# Altium footprint library Crystals.PcbLib: 7 footprints
Each footprint in its own frame and in the unit in brackets; x right, y up, seen from the top. Pads: shape width x height; smd on the part's side, far side on the other; paste and mask are expansions set on the pad; w line width, h text height; cw(c..) or ccw(c..) is an arc to the next point about the centre after c.
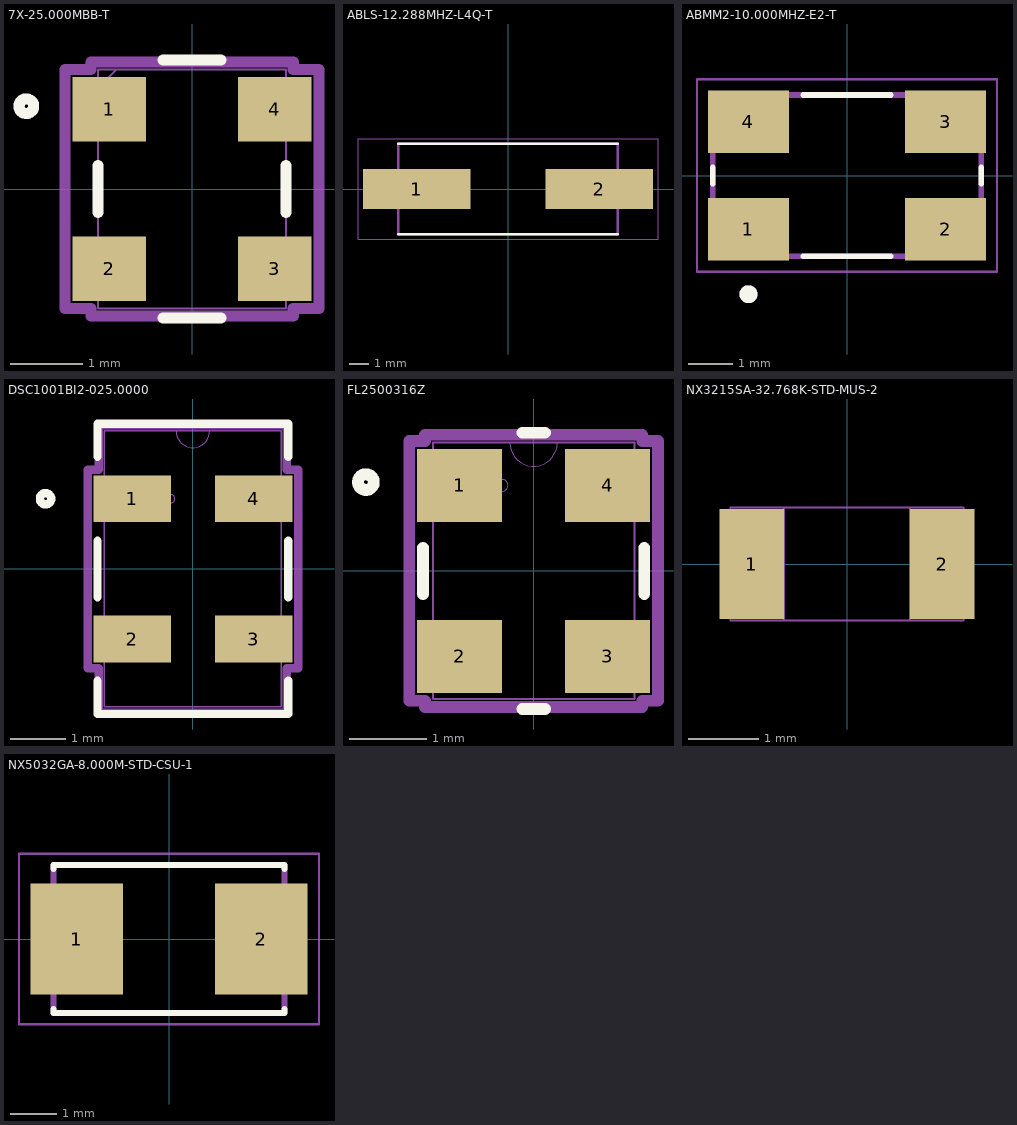
[diagram p0: the footprints below, top view; thin cyan lines are the x and y axes]

## 7X-25.000MBB-T [mil]
pads (4):
  rect 40x35 smd paste+0 mask+4: 1(-45,43.31) 2(-45,-43.31) 3(45,-43.31) 4(45,43.31)
Top Overlay:
  circle w6: c-90,45 r4
  lines w6: -51,-12.71 -51,12.71 ; -15.67,-70 15.67,-70 ; -15.67,70 15.67,70 ; 51,-12.71 51,12.71
Mechanical 13:
  lines w0: -51,-58.31 ccw(c-51,-43.31) -51,-28.31 ; -51,28.31 ccw(c-51,43.31) -51,58.31 ; 51,-58.31 cw(c51,-43.31) 51,-28.31 ; 51,28.31 cw(c51,43.31) 51,58.31
  lines w1: -51,-58.31 -51,-65 51,-65 51,-58.31 ; -51,-28.31 -51,28.31 ; -51,55 -41,65 ; -51,58.31 -51,65 51,65 51,58.31 ; 51,-28.31 51,28.31
Mechanical 15:
  lines w6: -69,-64.81 -55,-64.81 -55,-69 55,-69 55,-64.81 69,-64.81 69,64.81 55,64.81 55,69 -55,69 -55,64.81 -69,64.81 -69,-64.81

## ABLS-12.288MHZ-L4Q-T [mm]
pads (2):
  rect 5.6x2.1 smd: 1(-4.75,0) 2(4.75,0)
Top Overlay:
  lines w0.127: -5.7,-2.35 5.7,-2.35 ; -5.7,2.35 5.7,2.35
Mechanical 13:
  lines w0.127: -5.7,-2.35 -5.7,2.35 5.7,2.35 5.7,-2.35 -5.7,-2.35
Mechanical 15:
  lines w0.05: -7.8,-2.6 -7.8,2.6 7.8,2.6 7.8,-2.6 -7.8,-2.6
3D body "step_temp.STEP": height 4.06, standoff -0.1, extent -6.35,-2.349 6.35,2.349

## ABMM2-10.000MHZ-E2-T [mm]
pads (4):
  rect 1.8x1.4 smd: 1(-2.2,-1.2) 2(2.2,-1.2) 3(2.2,1.2) 4(-2.2,1.2)
Top Overlay:
  circle w0.2: c-2.2,-2.65 r0.1
  lines w0.127: -3,-0.18 -3,0.18 ; -0.98,-1.8 0.98,-1.8 ; -0.98,1.8 0.98,1.8 ; 3,-0.18 3,0.18
Mechanical 13:
  circle w0.2: c-2.2,-2.65 r0.1
  lines w0.127: -3,-1.8 3,-1.8 3,1.8 -3,1.8 -3,-1.8
Mechanical 15:
  lines w0.05: -3.35,-2.15 3.35,-2.15 3.35,2.15 -3.35,2.15 -3.35,-2.15
3D body "step_temp.STEP": height 1.2, standoff 0, extent -3,-1.8 3,1.8

## DSC1001BI2-025.0000 [mm]
pads (4):
  rect 1.403x0.849 smd paste+0 mask+0.102: 1(-1.102,1.27) 2(-1.102,-1.27) 3(1.102,-1.27) 4(1.102,1.27)
Top Overlay:
  circle w0.152: c-2.667,1.27 r0.102
  lines w0.152: -1.727,-2.027 -1.727,-2.627 1.727,-2.627 1.727,-2.027 ; -1.727,-0.513 -1.727,0.513 ; -1.727,2.027 -1.727,2.627 1.727,2.627 1.727,2.027 ; 1.727,-0.513 1.727,0.513
Mechanical 13:
  circle w0: c-0.4,1.27 r0.076
  lines w0: -0.305,2.5 ccw(c0,2.5) 0.305,2.5
  lines w0.025: -1.6,-2.5 1.6,-2.5 1.6,2.5 -1.6,2.5 -1.6,-2.5
Mechanical 15:
  lines w0.152: -1.905,-1.796 -1.905,1.796 -1.702,1.796 -1.702,2.602 1.702,2.602 1.702,1.796 1.905,1.796 1.905,-1.796 1.702,-1.796 1.702,-2.602 -1.702,-2.602 -1.702,-1.796 -1.905,-1.796
3D body "CDFN4_5X3P2_MCH.step": height 0.85, standoff 0, extent -1.6,-2.5 1.6,2.5

## FL2500316Z [mil]
pads (4):
  rect 43x37 smd paste+0 mask+4: 1(-37.5,43.31) 2(-37.5,-43.31) 3(37.5,-43.31) 4(37.5,43.31)
Top Overlay:
  circle w6: c-85,45 r4
  lines w6: -56,-11.71 -56,11.71 ; -5.78,-70 5.78,-70 ; -5.78,70 5.78,70 ; 56,-11.71 56,11.71
Mechanical 13:
  circle w0: c-16,43.31 r3
  lines w0: -12,65 ccw(c0,65) 12,65
  lines w1: -51,-65 -51,65 51,65 51,-65 -51,-65
Mechanical 15:
  lines w6: -63,-65.81 -55,-65.81 -55,-69 55,-69 55,-65.81 63,-65.81 63,65.81 55,65.81 55,69 -55,69 -55,65.81 -63,65.81 -63,-65.81
3D body "SON4_NKS3_3p2x2p5_CERAMICSMD_DIO.step": height 31.1, standoff 0, extent -50.98,-65 50.98,65

## NX3215SA-32.768K-STD-MUS-2 [mil]
pads (2):
  rect 36x61 smd paste+0 mask+4: 1(-53,0) 2(53,0)
Mechanical 13:
  circle w0: c-48,0 r3
  lines w1: -65,-31.5 -65,31.5 ; -65,-31.5 65,-31.5 ; -65,-31.5 -35,-31.5 -35,31.5 -65,31.5 ; -65,-31.5 -65,31.5 ; -65,31.5 65,31.5 ; 65,-31.5 65,31.5 ; 65,-31.5 65,31.5 ; 65,-31.5 35,-31.5 35,31.5 65,31.5
3D body "NX3215SA32.768KSTDMUS2.STEP": height 35.43, standoff 0, extent -62.99,-29.53 62.99,29.53

## NX5032GA-8.000M-STD-CSU-1 [mm]
pads (2):
  rect 2x2.4 smd: 1(-2,0) 2(2,0)
Top Overlay:
  lines w0.127: -2.5,-1.52 -2.5,-1.6 2.5,-1.6 2.5,-1.52 ; -2.5,1.52 -2.5,1.6 2.5,1.6 2.5,1.52
Mechanical 13:
  lines w0.127: -2.5,-1.6 -2.5,1.6 2.5,1.6 2.5,-1.6 -2.5,-1.6
Mechanical 15:
  lines w0.05: -3.25,-1.85 -3.25,1.85 3.25,1.85 3.25,-1.85 -3.25,-1.85
3D body "step_temp.STEP": height 1.5, standoff 0, extent -2.5,-1.6 2.5,1.6